# Altium footprint library CQFP_Sq_80P_Side_N.PcbLib: 2 footprints
Each footprint in its own frame and in the unit in brackets; x right, y up, seen from the top. Pads: shape width x height; smd on the part's side, far side on the other; paste and mask are expansions set on the pad; w line width, h text height; cw(c..) or ccw(c..) is an arc to the next point about the centre after c.
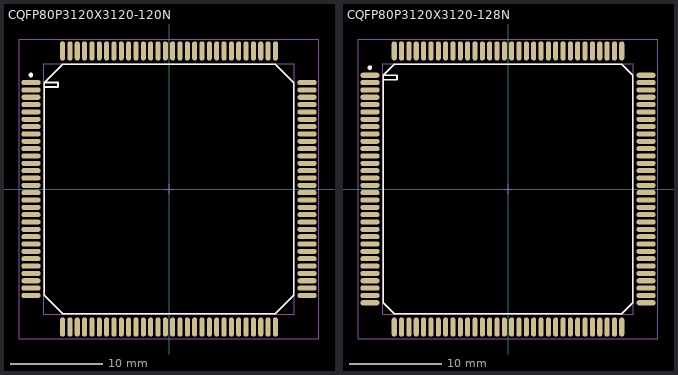
[diagram p0: the footprints below, top view; thin cyan lines are the x and y axes]

## CQFP80P3120X3120-120N [mm] "CQFP, 120-Leads, Body 27.1x27.1mm; Pitch 0.8mm, Gullwing Leadform, IPC Medium Density"
height 4.1
pads (120):
  oval 2.1x0.55 smd: 1(-15.05,11.6) 2(-15.05,10.8) 3(-15.05,10) 4(-15.05,9.2) 5(-15.05,8.4) 6(-15.05,7.6) 7(-15.05,6.8) 8(-15.05,6) 9(-15.05,5.2) 10(-15.05,4.4) 11(-15.05,3.6) 12(-15.05,2.8) 13(-15.05,2) 14(-15.05,1.2) 15(-15.05,0.4) 16(-15.05,-0.4) 17(-15.05,-1.2) 18(-15.05,-2) 19(-15.05,-2.8) 20(-15.05,-3.6) 21(-15.05,-4.4) 22(-15.05,-5.2) 23(-15.05,-6) 24(-15.05,-6.8) 25(-15.05,-7.6) 26(-15.05,-8.4) 27(-15.05,-9.2) 28(-15.05,-10) 29(-15.05,-10.8) 30(-15.05,-11.6) 61(15.05,-11.6) 62(15.05,-10.8) 63(15.05,-10) 64(15.05,-9.2) 65(15.05,-8.4) 66(15.05,-7.6) 67(15.05,-6.8) 68(15.05,-6) 69(15.05,-5.2) 70(15.05,-4.4) 71(15.05,-3.6) 72(15.05,-2.8) 73(15.05,-2) 74(15.05,-1.2) 75(15.05,-0.4) 76(15.05,0.4) 77(15.05,1.2) 78(15.05,2) 79(15.05,2.8) 80(15.05,3.6) 81(15.05,4.4) 82(15.05,5.2) 83(15.05,6) 84(15.05,6.8) 85(15.05,7.6) 86(15.05,8.4) 87(15.05,9.2) 88(15.05,10) 89(15.05,10.8) 90(15.05,11.6)
  oval 0.55x2.1 smd: 31(-11.6,-15.05) 32(-10.8,-15.05) 33(-10,-15.05) 34(-9.2,-15.05) 35(-8.4,-15.05) 36(-7.6,-15.05) 37(-6.8,-15.05) 38(-6,-15.05) 39(-5.2,-15.05) 40(-4.4,-15.05) 41(-3.6,-15.05) 42(-2.8,-15.05) 43(-2,-15.05) 44(-1.2,-15.05) 45(-0.4,-15.05) 46(0.4,-15.05) 47(1.2,-15.05) 48(2,-15.05) 49(2.8,-15.05) 50(3.6,-15.05) 51(4.4,-15.05) 52(5.2,-15.05) 53(6,-15.05) 54(6.8,-15.05) 55(7.6,-15.05) 56(8.4,-15.05) 57(9.2,-15.05) 58(10,-15.05) 59(10.8,-15.05) 60(11.6,-15.05) 91(11.6,15.05) 92(10.8,15.05) 93(10,15.05) 94(9.2,15.05) 95(8.4,15.05) 96(7.6,15.05) 97(6.8,15.05) 98(6,15.05) 99(5.2,15.05) 100(4.4,15.05) 101(3.6,15.05) 102(2.8,15.05) 103(2,15.05) 104(1.2,15.05) 105(0.4,15.05) 106(-0.4,15.05) 107(-1.2,15.05) 108(-2,15.05) 109(-2.8,15.05) 110(-3.6,15.05) 111(-4.4,15.05) 112(-5.2,15.05) 113(-6,15.05) 114(-6.8,15.05) 115(-7.6,15.05) 116(-8.4,15.05) 117(-9.2,15.05) 118(-10,15.05) 119(-10.8,15.05) 120(-11.6,15.05)
Top Overlay:
  circle w0.25: c-15.05,12.425 r0.125
  lines w0.2: -13.6,11.1 -12.1,11.1 -12.1,11.6 -13.6,11.6 ; -13.6,11.6 -13.6,-11.6 -11.6,-13.6 11.6,-13.6 13.6,-11.6 13.6,11.6 11.6,13.6 -11.6,13.6 -13.6,11.6
Mechanical 13:
  lines w0.1: -13.65,-13.65 -13.65,13.65 13.65,13.65 13.65,-13.65 -13.65,-13.65
Mechanical 15:
  lines w0.1: -0.5,0 0.5,0 ; 0,-0.5 0,0.5 ; -16.35,-16.35 -16.35,16.35 16.35,16.35 16.35,-16.35 -16.35,-16.35
3D body: height 4.1, standoff 0, extent -13.65,-13.65 13.65,13.65

## CQFP80P3120X3120-128N [mm] "CQFP, 128-Leads, Body 27.1x27.1mm; Pitch 0.8mm, Gullwing Leadform, IPC Medium Density"
height 4.1
pads (128):
  oval 2.1x0.55 smd: 1(-15.05,12.4) 2(-15.05,11.6) 3(-15.05,10.8) 4(-15.05,10) 5(-15.05,9.2) 6(-15.05,8.4) 7(-15.05,7.6) 8(-15.05,6.8) 9(-15.05,6) 10(-15.05,5.2) 11(-15.05,4.4) 12(-15.05,3.6) 13(-15.05,2.8) 14(-15.05,2) 15(-15.05,1.2) 16(-15.05,0.4) 17(-15.05,-0.4) 18(-15.05,-1.2) 19(-15.05,-2) 20(-15.05,-2.8) 21(-15.05,-3.6) 22(-15.05,-4.4) 23(-15.05,-5.2) 24(-15.05,-6) 25(-15.05,-6.8) 26(-15.05,-7.6) 27(-15.05,-8.4) 28(-15.05,-9.2) 29(-15.05,-10) 30(-15.05,-10.8) 31(-15.05,-11.6) 32(-15.05,-12.4) 65(15.05,-12.4) 66(15.05,-11.6) 67(15.05,-10.8) 68(15.05,-10) 69(15.05,-9.2) 70(15.05,-8.4) 71(15.05,-7.6) 72(15.05,-6.8) 73(15.05,-6) 74(15.05,-5.2) 75(15.05,-4.4) 76(15.05,-3.6) 77(15.05,-2.8) 78(15.05,-2) 79(15.05,-1.2) 80(15.05,-0.4) 81(15.05,0.4) 82(15.05,1.2) 83(15.05,2) 84(15.05,2.8) 85(15.05,3.6) 86(15.05,4.4) 87(15.05,5.2) 88(15.05,6) 89(15.05,6.8) 90(15.05,7.6) 91(15.05,8.4) 92(15.05,9.2) 93(15.05,10) 94(15.05,10.8) 95(15.05,11.6) 96(15.05,12.4)
  oval 0.55x2.1 smd: 33(-12.4,-15.05) 34(-11.6,-15.05) 35(-10.8,-15.05) 36(-10,-15.05) 37(-9.2,-15.05) 38(-8.4,-15.05) 39(-7.6,-15.05) 40(-6.8,-15.05) 41(-6,-15.05) 42(-5.2,-15.05) 43(-4.4,-15.05) 44(-3.6,-15.05) 45(-2.8,-15.05) 46(-2,-15.05) 47(-1.2,-15.05) 48(-0.4,-15.05) 49(0.4,-15.05) 50(1.2,-15.05) 51(2,-15.05) 52(2.8,-15.05) 53(3.6,-15.05) 54(4.4,-15.05) 55(5.2,-15.05) 56(6,-15.05) 57(6.8,-15.05) 58(7.6,-15.05) 59(8.4,-15.05) 60(9.2,-15.05) 61(10,-15.05) 62(10.8,-15.05) 63(11.6,-15.05) 64(12.4,-15.05) 97(12.4,15.05) 98(11.6,15.05) 99(10.8,15.05) 100(10,15.05) 101(9.2,15.05) 102(8.4,15.05) 103(7.6,15.05) 104(6.8,15.05) 105(6,15.05) 106(5.2,15.05) 107(4.4,15.05) 108(3.6,15.05) 109(2.8,15.05) 110(2,15.05) 111(1.2,15.05) 112(0.4,15.05) 113(-0.4,15.05) 114(-1.2,15.05) 115(-2,15.05) 116(-2.8,15.05) 117(-3.6,15.05) 118(-4.4,15.05) 119(-5.2,15.05) 120(-6,15.05) 121(-6.8,15.05) 122(-7.6,15.05) 123(-8.4,15.05) 124(-9.2,15.05) 125(-10,15.05) 126(-10.8,15.05) 127(-11.6,15.05) 128(-12.4,15.05)
Top Overlay:
  circle w0.25: c-15.05,13.225 r0.125
  lines w0.2: -13.6,11.9 -12.1,11.9 -12.1,12.4 -13.6,12.4 ; -13.6,12.4 -12.4,13.6 12.4,13.6 13.6,12.4 13.6,-12.4 12.4,-13.6 -12.4,-13.6 -13.6,-12.4 -13.6,12.4
Mechanical 13:
  lines w0.1: -13.65,-13.65 13.65,-13.65 13.65,13.65 -13.65,13.65 -13.65,-13.65
Mechanical 15:
  lines w0.1: -0.5,0 0.5,0 ; 0,-0.5 0,0.5 ; -16.35,-16.35 16.35,-16.35 16.35,16.35 -16.35,16.35 -16.35,-16.35
3D body: height 4.1, standoff 0, extent -13.65,-13.65 13.65,13.65